# EAGLE library part ESP32_CAM (library main)
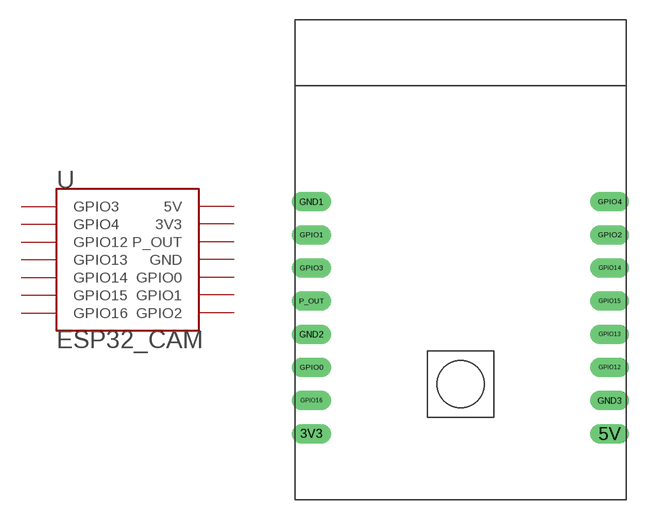
[diagram p1: symbol with the pads of ESP32_CAM; footprint ESP32_CAM]

Designator prefix -

## ESP32_CAM  [ESP32_CAM]
3V3  3V3
5V  5V
GND1  GND
GND2  GND
GND3  GND
GPIO0  GPIO0
GPIO1  GPIO1
GPIO2  GPIO2
GPIO3  GPIO3
GPIO4  GPIO4
GPIO12  GPIO12
GPIO13  GPIO13
GPIO14  GPIO14
GPIO15  GPIO15
GPIO16  GPIO16
P_OUT  P_OUT

## Footprint ESP32_CAM (pad centres in mm)
drill 1 long: 3V3 -11.43,-12.7; 5V 11.43,-12.7; GND1 -11.43,5.08; GND2 -11.43,-5.08; GND3 11.43,-10.16; GPIO0 -11.43,-7.62; GPIO1 -11.43,2.54; GPIO2 11.43,2.54; GPIO3 -11.43,0; GPIO4 11.43,5.08; GPIO12 11.43,-7.62; GPIO13 11.43,-5.08; GPIO14 11.43,0; GPIO15 11.43,-2.54; GPIO16 -11.43,-10.16; P_OUT -11.43,-2.54